# Altium schematic symbol library Protection.SchLib: 2 symbols
Pins are listed as number, name and electrical type; pins without a type are passive.

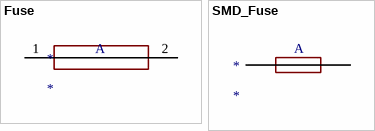
[diagram p0: symbols Fuse to SMD_Fuse]

## Fuse
designator *
KLS5-242 & BLX-A & BF-013
footprint Fuse
pins: 1, 2
text: A

## SMD_Fuse
designator *
01550900M
footprint SMD_Fuse
pins: 1, 2
text: A